# Altium schematic symbol library STeRG-Passives-Standard.SchLib: 55 symbols
Pins are listed as number, name and electrical type; pins without a type are passive.

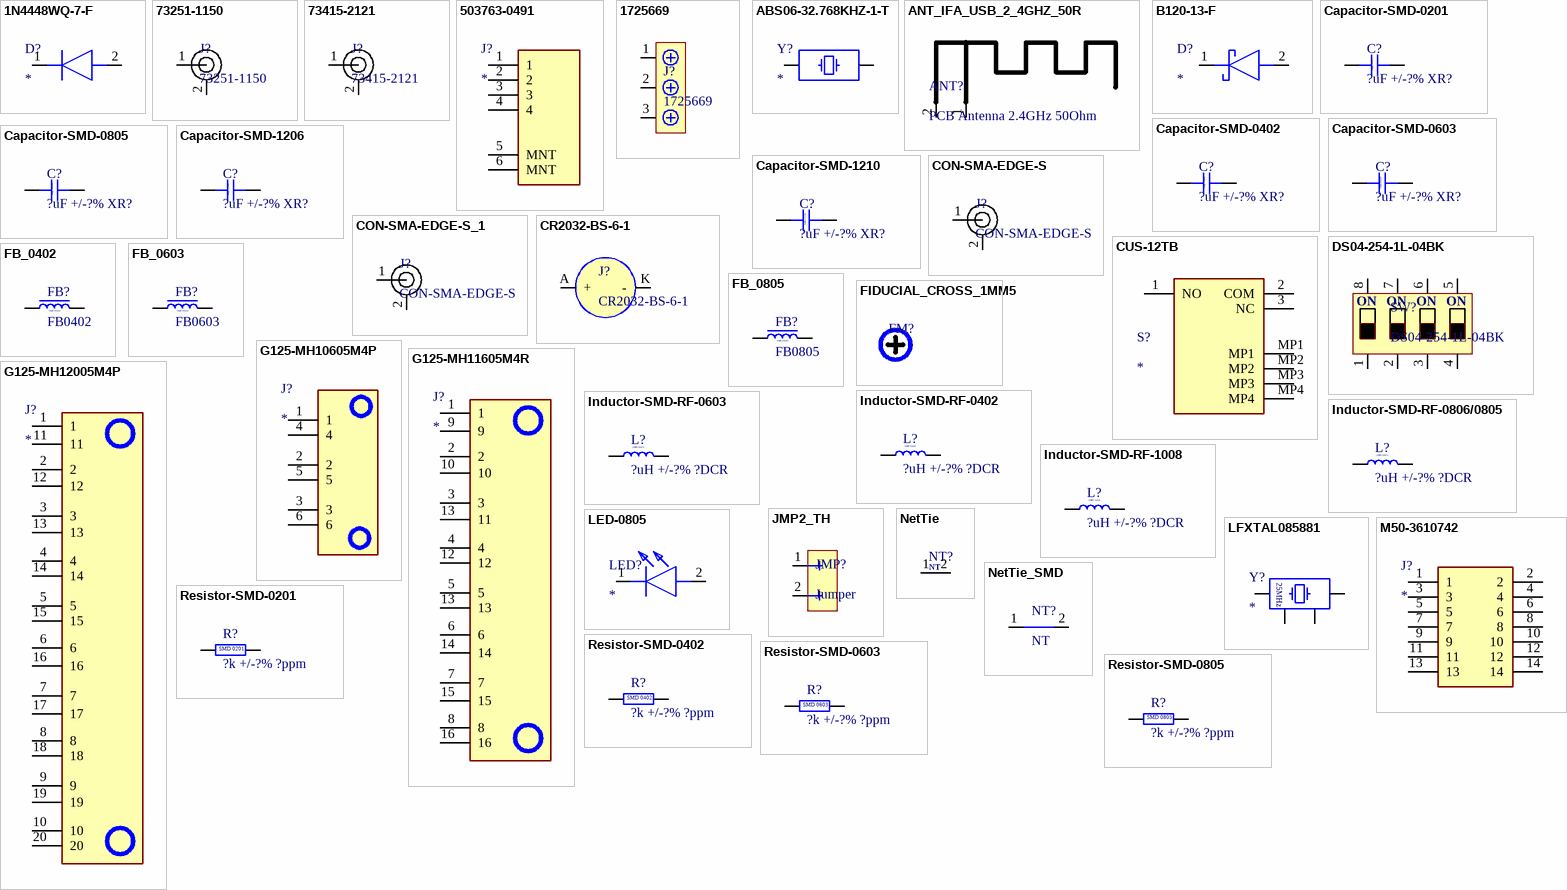
[diagram p0: symbols 1N4448WQ-7-F to Resistor-SMD-0805]

## 1N4448WQ-7-F
designator D?
Diode 100V 4A; Manufacturer_Name: Diodes Incorporated; Manufacturer_Part_Number: 1N4448WQ-7-F; Datasheet Link: http://www.mouser.com/ds/2/115/ds12002-536532.pdf; Height: 1.35mm; Mouser Part Number: 621-1N4448WQ-7-F; Mouser Price/Stock: https://www.mouser.co.uk/ProductDetail/Diodes-Incorporated/1N4448WQ-7-F?qs=s5XU71A7K78gaRcR8oskdg%3D%3D; Arrow Part Number: 1N4448WQ-7-F; Arrow Price/Stock: https://www.arrow.com/en/products/1n4448wq-7-f/diodes-incorporated?utm_currency=USD&region=nac
footprint SOD3716X135N
pins: 1 K, 2 A

## 73251-1150
designator J?
RF Connector 50 Ohms, SMA Jack Receptacle, Edge Mount, .25µm Gold (Au) Plating; Manufacturer: Molex; Manufacturer Part Number: 73251-1150
footprint 73251-1150
pins: 1, 2

## 73415-2121
designator J?
RF Connector 50 Ohms, MMCX Vertical Plug, PCB, Plating Per Commercial Requirements, Bulk; Manufacturer: Molex; Manufacturer Part Number: 73415-2121
footprint 73415-2121
pins: 1, 2

## 503763-0491
designator J?
Connector; Manufacturer_Name: Molex; Manufacturer_Part_Number: 503763-0491; Datasheet Link: https://www.molex.com/webdocs/datasheets/pdf/en-us/5037630491_PCB_HEADERS.pdf; Height: 1mm; Mouser Part Number: 538-503763-0491; Mouser Price/Stock: https://www.mouser.co.uk/ProductDetail/Molex/503763-0491?qs=zwvsCB%2Fxu0cTZVAek%2FYVrQ%3D%3D
footprint 5037630491
pins: 1, 2, 3, 4, 5 MNT, 6 MNT

## 1725669
designator J?
Screw Terminal Block 3 Positions 2.54mm; Manufacturer: Phoenix; Manufacturer Part Number: 1725669; Distributor Link: https://www.mouser.de/ProductDetail/Phoenix-Contact/1725669?qs=A%2FKWGUWTCZjmkTL0Oe91ew%3D%3D
footprint 1725669
pins: 1, 2, 3

## ABS06-32.768KHZ-1-T
designator Y?
32.768kHz Crystal or Oscillator 12.5pF 20ppm; Manufacturer_Name: ABRACON; Manufacturer_Part_Number: ABS06-32.768KHZ-1-T; Datasheet Link: https://abracon.com/Resonators/ABS06.pdf; Height: 0.6mm; Mouser Part Number: 815-ABS06-32.7K-1-T; Mouser Price/Stock: https://www.mouser.co.uk/ProductDetail/ABRACON/ABS06-32.768KHZ-1-T?qs=3LVMET7lfiOVpH4K9yAPuw%3D%3D; Arrow Part Number: ABS06-32.768KHZ-1-T; Arrow Price/Stock: https://www.arrow.com/en/products/abs06-32.768khz-1-t/abracon?utm_currency=USD&region=nac
footprint ABS06
pins: 1, 2

## ANT_IFA_USB_2_4GHZ_50R
designator ANT?, comment PCB Antenna 2.4GHz 50Ohm  (no BOM)
Inverted F 2.4GHz ISM PCB Antenna 50 Ohm; ComponentLink1Description: Datasheet; ComponentLink1URL: https://www.ti.com/lit/an/swra117d/swra117d.pdf
footprint ANT_IFA_USB_2_4GHZ_50R
pins: 1 RF, 2 GND

## B120-13-F
designator D?
Schottky Diode; Manufacturer_Name: Diodes Incorporated; Manufacturer_Part_Number: B120-13-F; Datasheet Link: https://www.diodes.com/assets/Datasheets/ds13002.pdf; Height: 2.4mm; Mouser Part Number: 621-B120-F; Mouser Price/Stock: https://www.mouser.co.uk/ProductDetail/Diodes-Incorporated/B120-13-F?qs=m%2FDAVSu2JKQ2m%2FldqYkj8Q%3D%3D; Arrow Part Number: B120-13-F; Arrow Price/Stock: https://www.arrow.com/en/products/b120-13-f/diodes-incorporated?region=nac
footprint DIOM5226X240N
pins: 1 K, 2 A

## Capacitor-SMD-0201
designator C?, comment ?uF +/-?% XR?
Capacitor SMD 0201 RATED
footprint CAP_0201
pins: 1, 2
text: SMD 0201

## Capacitor-SMD-0402
designator C?, comment ?uF +/-?% XR?
Capacitor SMD 0402 RATED
footprint CAP_0402
pins: 1, 2
text: SMD 0402

## Capacitor-SMD-0603
designator C?, comment ?uF +/-?% XR?
Capacitor SMD 0603 RATED
footprint CAP_0603
pins: 1, 2
text: SMD 0603

## Capacitor-SMD-0805
designator C?, comment ?uF +/-?% XR?
Capacitor SMD 0805 RATED
footprint CAP_0805
pins: 1, 2
text: SMD 0805

## Capacitor-SMD-1206
designator C?, comment ?uF +/-?% XR?
Capacitor SMD 1206 RATED
footprint CAP_1206
pins: 1, 2
text: SMD 1206

## Capacitor-SMD-1210
designator C?, comment ?uF +/-?% XR?
Capacitor SMD 1210 RATED
footprint CAP_1210
pins: 1, 2
text: SMD 1210

## CON-SMA-EDGE-S
designator J?
RF Connector SMA Female 50 Ohms 18 GHz PCB Edge Mount; Manufacturer: RF Solutions; Manufacturer Part Number: CON-SMA-EDGE-S
footprint CON-SMA-EDGE-S
pins: 1, 2

## CON-SMA-EDGE-S_1
designator J?, comment CON-SMA-EDGE-S
RF Connector SMA Female 50 Ohms 18 GHz PCB Edge Mount; Manufacturer: RF Solutions; Manufacturer Part Number: CON-SMA-EDGE-S
footprint CON-SMA-EDGE-S
pins: 1, 2

## CR2032-BS-6-1
designator J?
CR2032 Coin Cell Battery Holder; Manufacturer: Q&J; Manufacturer Part Number: CR2032-BS-6-1
footprint CR2032
pins: A +, K -

## CUS-12TB
designator S?
Switch; Manufacturer_Name: Nidec Copal; Manufacturer_Part_Number: CUS-12TB; Datasheet Link: https://www.nidec-copal-electronics.com/e/catalog/switch/cus.pdf; Height: 1.4mm; Mouser Part Number: 229-CUS-12TB; Mouser Price/Stock: https://www.mouser.co.uk/ProductDetail/Nidec-Components/CUS-12TB?qs=XeJtXLiO41Q1Ug1dC3Bq%2FQ%3D%3D
footprint CUS12TB
pins: 1 NO, 2 COM, 3 NC, MP1, MP2, MP3, MP4

## DS04-254-1L-04BK
designator SW?
DIP Switch SPST 4 Positions Short Pins 2.54mm Pitch; Manufacturer: CUI Devices; Manufacturer Part Number: DS04-254-1L-04BK; Distributor Link: https://www.mouser.de/ProductDetail/CUI-Devices/DS04-254-1L-04BK?qs=wnTfsH77Xs6GCysQKZgHrw%3D%3D
pins: 1, 2, 3, 4, 5, 6, 7, 8
text: ON

## FB_0402
designator FB?, comment FB0402
Ferrite Bead SMD 0402; Manufacturer: *; Manufacturer Part Number: *; Distributor Link: *; LCSC: *
footprint FB_0402
pins: 1, 2
text: SMD 0402

## FB_0603
designator FB?, comment FB0603
Ferrite Bead SMD 0603; Manufacturer: *; Manufacturer Part Number: *; Distributor Link: *; LCSC: *
footprint FB_0603 (Ferrite Bead 0603)
pins: 1, 2
text: SMD 0603

## FB_0805
designator FB?, comment FB0805
Ferrite Bead SMD 0805; Manufacturer: *; Manufacturer Part Number: *; Distributor Link: *; LCSC: *
footprint FB_0805
pins: 1, 2
text: SMD 0805

## FIDUCIAL_CROSS_1MM5
designator FM?, comment Fiducial Marker  (value not drawn)  (no BOM)
Fiducial Marker Cross 1.5mm NO BOM
footprint FIDUCIAL_CROSS_1MM5

## G125-MH10605M4P
designator J?
Connector; Manufacturer_Name: Harwin; Manufacturer_Part_Number: G125-MH10605M4P; Datasheet Link: https://content.harwin.com/m/667f1be9427fb768/original/DRG-02921-Technical-Drawing-Datasheet-G125-MH1XX05M4P-pdf.pdf; Height: 5.3mm; Mouser Part Number: 855-G125MH1065M4PM4P; Mouser Price/Stock: https://www.mouser.co.uk/ProductDetail/Harwin/G125-MH10605M4P?qs=vHuUswq2%252BswF07IXFR1W6A%3D%3D
footprint G125-MH10605M4P_1
pins: 1, 2, 3, 4, 5, 6

## G125-MH11605M4R
designator J?
Connector; Manufacturer_Name: Harwin; Manufacturer_Part_Number: G125-MH11605M4R; Datasheet Link: https://content.harwin.com/m/dde372ac2f9348fc/original/DRG-02922-Technical-Drawing-Datasheet-G125-MH1XX05M4R-pdf.pdf; Height: 5.3mm; Mouser Part Number: 855-G125MH1165M4RM4R; Mouser Price/Stock: https://www.mouser.co.uk/ProductDetail/Harwin/G125-MH11605M4R?qs=vHuUswq2%252Bsy3a%2Fwwlkzmlw%3D%3D
footprint G125-MH11605M4R
pins: 1, 2, 3, 4, 5, 6, 7, 8, 9, 10, 12, 13 11, 13, 14, 15, 16

## G125-MH12005M4P
designator J?
Connector; Manufacturer_Name: Harwin; Manufacturer_Part_Number: G125-MH12005M4P; Datasheet Link: https://content.harwin.com/m/667f1be9427fb768/original/DRG-02921-Technical-Drawing-Datasheet-G125-MH1XX05M4P-pdf.pdf; Height: 5.3mm; Mouser Part Number: 855-G125MH1205M4PM4P; Mouser Price/Stock: https://www.mouser.co.uk/ProductDetail/Harwin/G125-MH12005M4P?qs=vHuUswq2%252Bsy%252BkqY0DryK%2FQ%3D%3D
footprint G125-MH12005M4P_1
pins: 1, 2, 3, 4, 5, 6, 7, 8, 9, 10, 11, 12, 13, 14, 15, 16, 17, 18, 19, 20

## Inductor-SMD-RF-0402
designator L?, comment ?uH +/-?% ?DCR
Inductor SMD 0402
footprint IND_0402
pins: 1, 2
text: SMD 0402

## Inductor-SMD-RF-0603
designator L?, comment ?uH +/-?% ?DCR
Inductor SMD 0603
footprint IND_0603
pins: 1, 2
text: SMD 0603

## Inductor-SMD-RF-0806/0805
designator L?, comment ?uH +/-?% ?DCR
Inductor SMD 0805
footprint DFE2HCAH1R0MJ0L
pins: 1, 2
text: SMD 0805

## Inductor-SMD-RF-1008
designator L?, comment ?uH +/-?% ?DCR
Inductor SMD 1008
footprint 1285ASH1R0MP2
pins: 1, 2
text: SMD 1008

## JMP2_TH
designator JMP?, comment Jumper
Jumper 2 Pins Through-Hole DO NOT PLACE
footprint JMP2_TH
pins: 1, 2

## LED-0805
designator LED?
LED; Manufacturer_Name: Lite-On; Manufacturer_Part_Number: LTST-C230KFKT; Datasheet Link: https://media.digikey.com/pdf/Data%20Sheets/Lite-On%20PDFs/LTST-C230KFKT_5-24-06.pdf; Height: 1.2mm; Mouser Part Number: 859-LTST-C230KFKT; Mouser Price/Stock: https://www.mouser.co.uk/ProductDetail/Lite-On/LTST-C230KFKT?qs=8myqPtD7QBPZHIbUaocfpw%3D%3D; Arrow Part Number: LTST-C230KFKT; Arrow Price/Stock: https://www.arrow.com/en/products/ltst-c230kfkt/lite-on-technology?region=nac
footprint LEDC3216X120N
pins: 1 K, 2 A

## LFXTAL085881
designator Y?
Crystal Oscillator 25MHz; Manufacturer_Name: IDQ; Manufacturer_Part_Number: LFXTAL085881; Datasheet Link: https://www.mouser.in/datasheet/3/1460/1/LFXTAL085881.pdf; Height: 0.8mm
footprint CRY-SMD-3225
pins: 1, 2, 3, 4
text: 25MHz

## M50-3610742
designator J?
Connector; Manufacturer_Name: Harwin; Manufacturer_Part_Number: M50-3610742; Description: Archer: 7+7 Pos Plug DIL Straight SMT Connector 3mm pin with Pegs; Datasheet Link: https://content.harwin.com/m/023beacb372da894/original/DRG-00659-Technical-Drawing-Datasheet-M50-361-pdf.pdf; Height: 4.68mm; Mouser Part Number: 855-M50-3610742; Mouser Price/Stock: https://www.mouser.co.uk/ProductDetail/Harwin/M50-3610742?qs=takmLBRdAO%2FJs2sxBVXbNA%3D%3D
footprint M50-3610742 (Footprint not found)
pins: 1, 2, 3, 4, 5, 6, 7, 8, 9, 10, 11, 12, 13, 14

## NetTie
designator NT?, comment NT  (value not drawn)  (net tie, no BOM)
Net Tie
footprint NETTIE
pins: 1, 2

## NetTie_SMD
designator NT?, comment NT  (net tie, no BOM)
Net Tie SMD
footprint NETTIE_SMD
pins: 1, 2

## Resistor-SMD-0201
designator R?, comment ?k +/-?% ?ppm
Resistor SMD 0201 RATED
footprint RES_0201
pins: 1, 2
text: SMD 0201

## Resistor-SMD-0402
designator R?, comment ?k +/-?% ?ppm
Resistor SMD 0402 RATED
footprint RES_0402
pins: 1, 2
text: SMD 0402

## Resistor-SMD-0603
designator R?, comment ?k +/-?% ?ppm
Resistor SMD 0603 RATED
footprint RES_0603
pins: 1, 2
text: SMD 0603

## Resistor-SMD-0805
designator R?, comment ?k +/-?% ?ppm
Resistor SMD 0805 RATED
footprint RES_0805
pins: 1, 2
text: SMD 0805

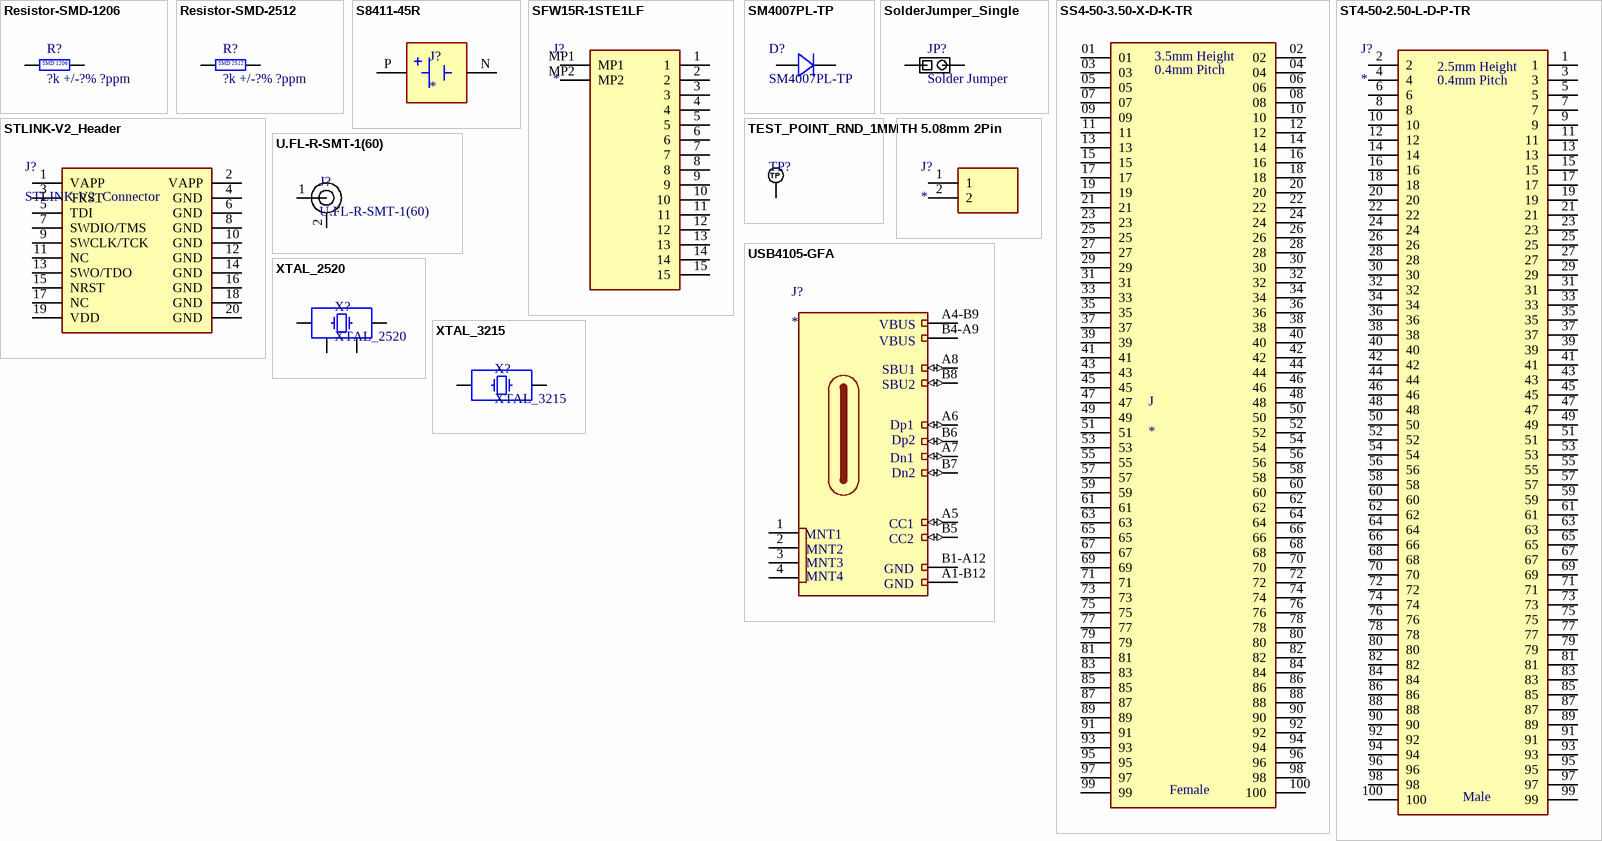
[diagram p1: symbols Resistor-SMD-1206 to XTAL_3215]

## Resistor-SMD-1206
designator R?, comment ?k +/-?% ?ppm
Resistor SMD 1206 RATED
footprint RES_1206
pins: 1, 2
text: SMD 1206

## Resistor-SMD-2512
designator R?, comment ?k +/-?% ?ppm
Resistor SMD 2512 RATED
footprint RES_2512
pins: 1, 2
text: SMD 2512

## S8411-45R
designator J?
Coin Cell Battery Retainer, Horizontal SMT, for CR1220 Coin Cell Batteries, Tape & Reeled; MF: Harwin; MP: S8411-45R; SnapEDA_Link: https://www.snapeda.com/parts/S8411-45R/Harwin+Inc./view-part/?ref=snap; Package: None; Value: *; Check_prices: https://www.snapeda.com/parts/S8411-45R/Harwin+Inc./view-part/?ref=eda
footprint HARWIN_S8411-45R
pins: N NEG, P POS

## SFW15R-1STE1LF
designator J?
Connector; Manufacturer_Name: Amphenol Communications Solutions; Manufacturer_Part_Number: SFW15R-1STE1LF; Datasheet Link: https://cdn.amphenol-cs.com/media/wysiwyg/files/drawing/sfw12lf.pdf; Height: 2.9mm; Arrow Part Number: SFW15R-1STE1LF; Arrow Price/Stock: https://www.arrow.com/en/products/sfw15r-1ste1lf/amphenol-fci?utm_currency=USD&region=nac
footprint SFW15R1STE1LF
pins: 1, 2, 3, 4, 5, 6, 7, 8, 9, 10, 11, 12, 13, 14, 15, MP1, MP2

## SM4007PL-TP
designator D?
No Description Available; Manufacturer_Name: MCC; Copyright: Copyright (C) 2025 Ultra Librarian. All rights reserved.; Manufacturer_Part_Number: SM4007PL-TP; ComponentLink1Description: Purchase; ComponentLink1URL: https://robu.in/product/sm4007pl-a7-slkor-1a-1kv-1-1v1a-sod-123fl-diodes-general-purpose-rohs/
footprint DIODE_SOD-123FL_2P825X1P65_MCC
pins: 1, 2

## SolderJumper_Single
designator JP?, comment Solder Jumper
Solder Jumper Single 0.5mm Pitch
footprint SolderJumper_Single
pins: 1, 2

## SS4-50-3.50-X-D-K-TR
designator J
100 Position Connector Socket, Female, 3.5mm, 0.4mm pitch; MP: SS4-50-3.50-L-D-K-TR; MF: Samtec; Value: *; SnapEDA_Link: https://www.snapeda.com/parts/SS4-50-3.50-L-D-K-TR/Samtec/view-part/877762/?ref=snap; Availability: Unavailable; Price: None; Package: None; Toby_UK-Purchase-URL: https://snapeda.com/shop?store=Toby+UK&id=877762
footprint SS450350XDKTR
pins: 01, 02, 03, 04, 05, 06, 07, 08, 09, 10, 11, 12, 13, 14, 15, 16, 17, 18, 19, 20, 21, 22, 23, 24, 25, 26, 27, 28, 29, 30, 31, 32, 33, 34, 35, 36, 37, 38, 39, 40, 41, 42, 43, 44, 45, 46, 47, 48, 49, 50, 51, 52, 53, 54, 55, 56, 57, 58, 59, 60, 61, 62, 63, 64, 65, 66, 67, 68, 69, 70, 71, 72, 73, 74, 75, 76, 77, 78, 79, 80, 81, 82, 83, 84, 85, 86, 87, 88, 89, 90, 91, 92, 93, 94, 95, 96, 97, 98, 99, 100
text: 3.5mm Height; 0.4mm Pitch; Female

## ST4-50-2.50-L-D-P-TR
designator J?
100 Position Connector Socket, Male, 2.5mm, 0.4mm pitch; Manufacturer_Name: SAMTEC; Manufacturer_Part_Number: ST4-50-2.50-L-D-P-TR; Datasheet Link: https://suddendocs.samtec.com/prints/st4-xx-x.xx-x-d-x-xx-xr-mkt.pdf?_gl=1*p4lnnt*_gcl_aw*R0NMLjE3NjE1NzQ2MjguQ2owS0NRandzUHpIQmhEQ0FSSXNBTGxXTkcxNXNuS3NPREZ4VFBkN05NNENWczY4WndtMDF2UGI2VEtOYkllSGM0RVM4cXlLYUEtekt3QWFBdmQ1RUFMd193Y0I.*_gcl_au*MTYyNTE0NzM4; Height: 5.18mm; Mouser Part Number: 200-ST4502.50LDPTR; Mouser Price/Stock: https://www.mouser.co.uk/ProductDetail/Samtec/ST4-50-2.50-L-D-P-TR?qs=%252BZP6%2F%252BtExtD7J%2FSrnzbdmg%3D%3D
footprint ST450250LDPTR
pins: 1, 2, 3, 4, 5, 6, 7, 8, 9, 10, 11, 12, 13, 14, 15, 16, 17, 18, 19, 20, 21, 22, 23, 24, 25, 26, 27, 28, 29, 30, 31, 32, 33, 34, 35, 36, 37, 38, 39, 40, 41, 42, 43, 44, 45, 46, 47, 48, 49, 50, 51, 52, 53, 54, 55, 56, 57, 58, 59, 60, 61, 62, 63, 64, 65, 66, 67, 68, 69, 70, 71, 72, 73, 74, 75, 76, 77, 78, 79, 80, 81, 82, 83, 84, 85, 86, 87, 88, 89, 90, 91, 92, 93, 94, 95, 96, 97, 98, 99, 100
text: 2.5mm Height; 0.4mm Pitch; Male

## STLINK-V2_Header
designator J?, comment STLINK-V2_Connector
Connector; Manufacturer_Name: 3M; Manufacturer_Part_Number: N2520-6002-RB; Datasheet Link: http://multimedia.3m.com/mws/media/330367O/3m-four-wall-header-2500-series-ts-0770.pdf; Height: 9.91mm; Arrow Part Number: N2520-6002-RB; Arrow Price/Stock: https://www.arrow.com/en/products/n2520-6002-rb/3m?region=europe
footprint SHDR20W64P254_2X10_3272X859X991P
pins: 1 VAPP, 2 VAPP, 3 TRST, 4 GND, 5 TDI, 6 GND, 7 SWDIO/TMS, 8 GND, 9 SWCLK/TCK, 10 GND, 11 NC, 12 GND, 13 SWO/TDO, 14 GND, 15 NRST, 16 GND, 17 NC, 18 GND, 19 VDD, 20 GND

## TEST_POINT_RND_1MM
designator TP?, comment TP_NOBOM  (value not drawn)  (no BOM)
Test Point Round 1mm (NO BOM)
footprint PAD_RND_1MM
pins: 1 TP

## TH 5.08mm 2Pin
designator J?
Connector; Manufacturer_Name: Multicomp Pro; Manufacturer_Part_Number: MC000048; Datasheet Link: http://www.farnell.com/datasheets/3186341.pdf; Height: 14.3mm
footprint MC000048
pins: 1, 2

## U.FL-R-SMT-1(60)
designator J?
RF Connector u.FL 50 Ohms 6 GHz; Manufacturer: Hirose Connector; Manufacturer Part Number: U.FL-R-SMT-1(60)
footprint U.FL-R-SMT-1(60)
pins: 1, 2

## USB4105-GFA
designator J?
footprint FP-USB4105-GF-A-MFG
pins: 1 MNT 1, 2 MNT 2, 3 MNT 3, 4 MNT 4, A1-B12 GND, A4-B9 VBUS (power), A5 CC1 (io), A6 Dp1 (io), A7 Dn1 (io), A8 SBU1 (io), B1-A12 GND, B4-A9 VBUS (power), B5 CC2 (io), B6 Dp2 (io), B7 Dn2 (io), B8 SBU2 (io)
text: MNT1; MNT2; MNT3; MNT4

## XTAL_2520
designator X?
Crystal SMD 2520; Distributor Link: *
pins: 1, 2, 3, 4

## XTAL_3215
designator X?
Crystal SMD 3215; Distributor Link: *
pins: 1, 2